# Altium schematic symbol library QUTMS_PotentiometerLibrary.SchLib: 6 symbols
Pins are listed as number, name and electrical type; pins without a type are passive.

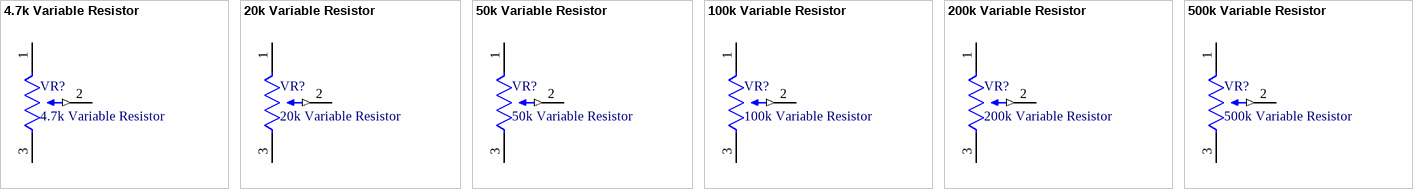
[diagram p0: symbols 4.7k Variable Resistor to 500k Variable Resistor]

## 4.7k Variable Resistor
designator VR?
4k7 ±25% ±250 ppm/°C SMD Variable Resistors RoHS | VG039NCHXTB472; ComponentLink1Description: LCSC; ComponentLink1URL: https://lcsc.com/product-detail/Variable-Resistors_HDK-Hokuriku-Elec-Industry-VG039NCHXTB472_C128555.html
footprint VG039NCHXTB472
pins: 1 48, 2 50 (out), 3 49

## 20k Variable Resistor
designator VR?
20K ±25% ±250 ppm/°C SMD Variable Resistors RoHS | VG039NCHXTB203; ComponentLink1Description: LCSC; ComponentLink1URL: https://lcsc.com/product-detail/Variable-Resistors_HDK-Hokuriku-Elec-Industry-VG039NCHXTB203_C128550.html
footprint VG039NCHXTB472
pins: 1 48, 2 50 (out), 3 49

## 50k Variable Resistor
designator VR?
50K ±25% ±250 ppm/°C SMD Variable Resistors RoHS | VG039NCHXTB503; ComponentLink1Description: LCSC; ComponentLink1URL: https://lcsc.com/product-detail/Variable-Resistors_HDK-Hokuriku-Elec-Industry-VG039NCHXTB503_C145161.html
footprint VG039NCHXTB472
pins: 1 48, 2 50 (out), 3 49

## 100k Variable Resistor
designator VR?
100K ±25% ±250 ppm/°C SMD Variable Resistors RoHS | VG039NCHXTB104; ComponentLink1Description: LCSC; ComponentLink1URL: https://lcsc.com/product-detail/Variable-Resistors_HDK-Hokuriku-Elec-Industry-VG039NCHXTB104_C128545.html
footprint VG039NCHXTB472
pins: 1 48, 2 50 (out), 3 49

## 200k Variable Resistor
designator VR?
200K ±25% ±250 ppm/°C SMD Variable Resistors RoHS | VG039NCHXTB204; ComponentLink1Description: LCSC; ComponentLink1URL: https://lcsc.com/product-detail/Variable-Resistors_HDK-Hokuriku-Elec-Industry-VG039NCHXTB204_C128551.html
footprint VG039NCHXTB472
pins: 1 48, 2 50 (out), 3 49

## 500k Variable Resistor
designator VR?
500K ±25% ±250 ppm/°C SMD Variable Resistors RoHS | VG039NCHXTB504; ComponentLink1Description: LCSC; ComponentLink1URL: https://lcsc.com/product-detail/Variable-Resistors_HDK-Hokuriku-Elec-Industry-VG039NCHXTB504_C128558.html
footprint VG039NCHXTB472
pins: 1 48, 2 50 (out), 3 49